# Altium footprint library Pcblibv2.PcbLib: 97 footprints (part 7 of 7)
Each footprint in its own frame and in the unit in brackets; x right, y up, seen from the top. Pads: shape width x height; smd on the part's side, far side on the other; paste and mask are expansions set on the pad; w line width, h text height; cw(c..) or ccw(c..) is an arc to the next point about the centre after c.
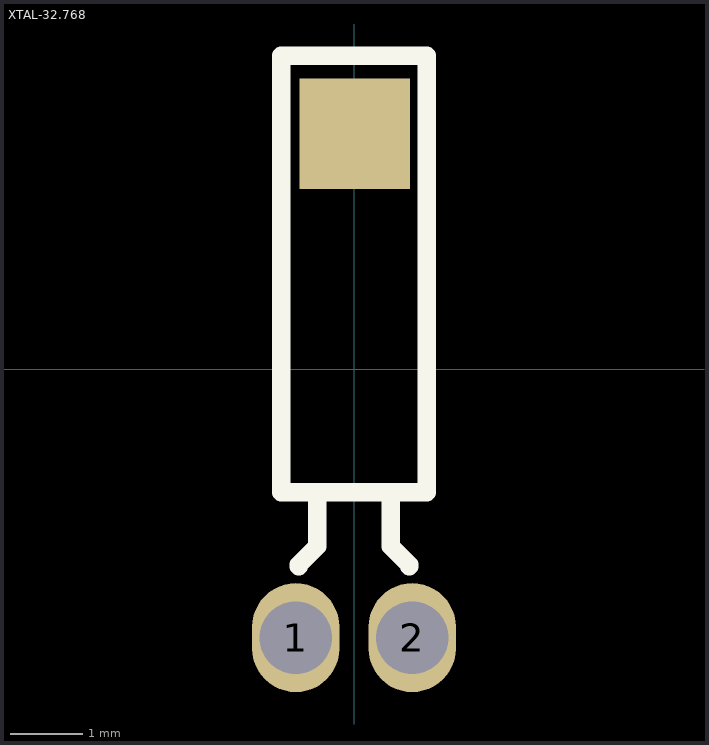
[diagram p6: the footprint, top view; thin cyan lines are the x and y axes]

## XTAL-32.768 [mm] "长的"
pads (3):
  oval 1.2x1.5 hole 1: 1(-0.8,-3.688) 2(0.8,-3.688)
  rect 1.524x1.524 smd: ""(0.01,3.241)
Top Overlay:
  lines w0.254: -0.762,-2.708 -0.762,-2.688 -0.508,-2.435 -0.508,-2.307 -0.508,-1.799 ; 0.508,-1.799 0.508,-2.307 0.508,-2.434 0.762,-2.688 0.762,-2.708 ; -1,-1.688 -1,4.311 1,4.311 1,-1.688 -1,-1.688